# EAGLE library part ESP32-S3-DEVKITC-1 (library Microcontrolador)
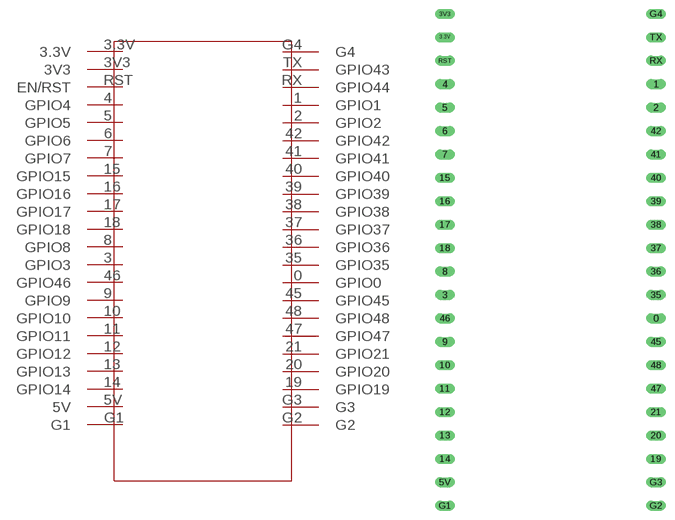
[diagram p0: symbol with the pads of ESP32-S3-DEVKITC-1; footprint ESP32-S3-DEVKITC-1]

Designator prefix -

## ESP32-S3-DEVKITC-1  [ESP32-S3-DEVKITC-1]
0  GPIO0
1  GPIO1
2  GPIO2
3  GPIO3
3.3V  3.3V  pwr
3V3  3V3  pwr
4  GPIO4
5  GPIO5
5V  5V  pwr
6  GPIO6
7  GPIO7
8  GPIO8
9  GPIO9
10  GPIO10
11  GPIO11
12  GPIO12
13  GPIO13
14  GPIO14
15  GPIO15
16  GPIO16
17  GPIO17
18  GPIO18
19  GPIO19
20  GPIO20
21  GPIO21
35  GPIO35
36  GPIO36
37  GPIO37
38  GPIO38
39  GPIO39
40  GPIO40
41  GPIO41
42  GPIO42
45  GPIO45
46  GPIO46
47  GPIO47
48  GPIO48
G1  G1  pwr
G2  G2  pwr
G3  G3  pwr
G4  G4  pwr
RST  EN/RST
RX  GPIO44
TX  GPIO43

## Footprint ESP32-S3-DEVKITC-1 (pad centres in mm)
drill 0.6 long: 0 11.43,-6.35; 1 11.43,19.05; 2 11.43,16.51; 3 -11.43,-3.81; 3.3V -11.43,24.13; 3V3 -11.43,26.67; 4 -11.43,19.05; 5 -11.43,16.51; 5V -11.43,-24.13; 6 -11.43,13.97; 7 -11.43,11.43; 8 -11.43,-1.27; 9 -11.43,-8.89; 10 -11.43,-11.43; 11 -11.43,-13.97; 12 -11.43,-16.51; 13 -11.43,-19.05; 14 -11.43,-21.59; 15 -11.43,8.89; 16 -11.43,6.35; 17 -11.43,3.81; 18 -11.43,1.27; 19 11.43,-21.59; 20 11.43,-19.05; 21 11.43,-16.51; 35 11.43,-3.81; 36 11.43,-1.27; 37 11.43,1.27; 38 11.43,3.81; 39 11.43,6.35; 40 11.43,8.89; 41 11.43,11.43; 42 11.43,13.97; 45 11.43,-8.89; 46 -11.43,-6.35; 47 11.43,-13.97; 48 11.43,-11.43; G1 -11.43,-26.67; G2 11.43,-26.67; G3 11.43,-24.13; G4 11.43,26.67; RST -11.43,21.59; RX 11.43,21.59; TX 11.43,24.13